# Altium integrated library Library.IntLib: 629 symbols (part 14 of 21)
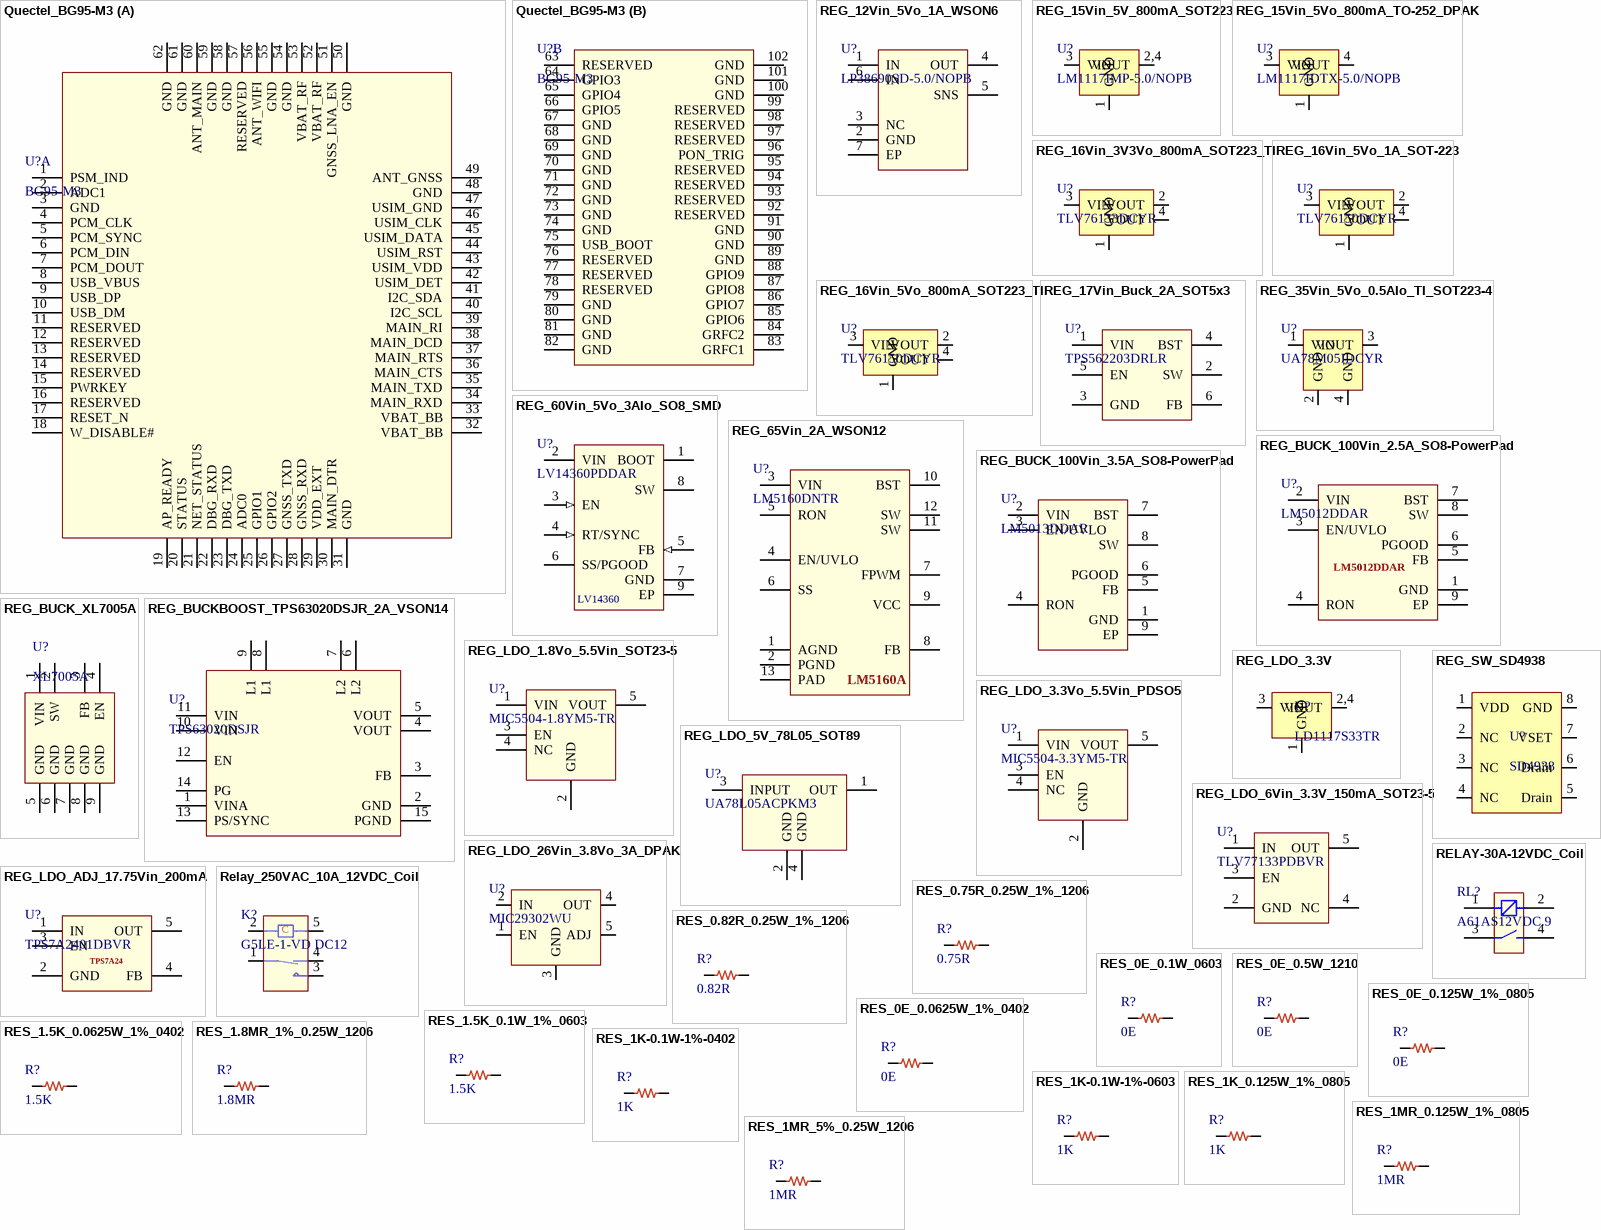
[diagram p31: symbols Quectel_BG95-M3 to RES_1MR_5%_0.25W_1206]

## REG_16Vin_5Vo_800mA_SOT223_TI
designator U?, comment TLV76150DCYR
1-A 16-V high-PSRR linear voltage regulator 4-SOT-223 -40 to 125; Manufacturer: Texas Instruments; Supplier: Mouser; Supplier Part Number: 595-TLV76150DCYR; Manufacturer Part Number: TLV76150DCYR; RoHS: No; Category: Integrated Circuits (ICs); Stock: 33339; Pricing: 1=0.5, 10=0.314, 50=0.314, 100=0.253, 1000=0.231, 10000=0.167 (USD)
footprint SOT223 (SOT223, 4-Leads, Body 6.50x7.00mm (avg), Pitch 2.30mm, IPC Medium Density)
pins: 1 GND, 2 VOUT, 3 VIN, 4 VOUT

## REG_17Vin_Buck_2A_SOT5x3
designator U?, comment TPS562203DRLR
4.2-V to 17-V input, 2-A synchronous buck converter in SOT563 with eco-mode 6-SOT-5X3 -40 to 125; Manufacturer: Texas Instruments; Supplier: Mouser; Supplier Part Number: 595-TPS562203DRLR; Manufacturer Part Number: TPS562203DRLR; RoHS: No; Category: Voltage Regulators - Switching; Stock: 6075; Pricing: 1=0.45, 10=0.344, 50=0.344, 100=0.214, 1000=0.113, 10000=0.087 (USD)
footprint SOT5X3 - 6
pins: 1 VIN, 2 SW, 3 GND, 4 BST, 5 EN, 6 FB

## REG_35Vin_5Vo_0.5AIo_TI_SOT223-4
designator U?, comment UA78M05IDCYR
Fixed Positive Standard Regulator, 5VBIPolar, SOT223-4; Manufacturer: Texas Instruments; Package Body Material: Plastic; Dropout Voltage1-Nom: 2V; Input Voltage Absolute-Max: 35V; Max Supply Voltage: 25V; Min Input Voltage: 7V; Line Regulation-Max: 0.1%; Channels: 1; Output Current1-Max: 500mA; Output Voltage1-Max: 5.25V; Output Voltage1-Min: 4.75V; Output Voltage1-Nom: 5V; Regulator Type: FIXED POSITIVE SINGLE OUTPUT STANDARD REGULATOR; Voltage Tolerance-Max: 5%; Qualification Status: Not Qualified; Supplier: Mouser; Supplier Part Number: 595-UA78M05IDCYR; Manufacturer Part Number: UA78M05IDCYR; RoHS: Yes; Category: Voltage Regulators - Linear; Stock: 50680; Pricing: 1=0.62, 10=0.516, 50=0.516, 100=0.392, 1000=0.262, 10000=0.215 (USD); Case/Package: SOP; Pins: 4; Package Shape: Rectangular; Terminal Finish: Tin; JESD-609 Code: e3; Adjustability: FIXED; JESD-30 Code: R-PDSO-G4; Load Regulation-Max: 0.1%; Moisture Sensitivity Level: 2; Number of Outputs: 1; Operating Temperature, TJ-Max: 125°C; Operating Temperature, TJ-Min: -40°C; Package Style: SMALL OUTLINEMeter; Packaging: Tape and Reel; Peak Reflow Temperature (Cel): 260°C; Surface Mount: Yes; Technology: BIPOLAR; Terminal Form: Gull Wing; Terminal Position: DUAL; Length: 6.5mm; Width: 3.5mm; Height - Seated (Max): 1.8mm; Terminal Pitch: 2.3mm; Reach SVHC Compliant: Yes; RoHS Compliant: Yes; ComponentLink1URL: https://www.ti.com:443/lit/ds/symlink/ua78m.pdf?src-supplier=IHS+Markit; ComponentLink1Description: https://www.ti.com:443/lit/ds/symlink/ua78m.pdf?src-supplier=IHS+Markit; ComponentLink2URL: https://datasheet.ciiva.com/2042/ua78m05-2042251.pdf?src-supplier=Digikey; ComponentLink2Description: https://datasheet.ciiva.com/2042/ua78m05-2042251.pdf?src-supplier=Digikey; ComponentLink3URL: https://datasheet.ciiva.com/2042/ua78m05-2042252.pdf?src-supplier=Digikey; ComponentLink3Description: https://datasheet.ciiva.com/2042/ua78m05-2042252.pdf?src-supplier=Digikey; ComponentLink4URL: https://datasheet.ciiva.com/2042/ua78m05-2042253.pdf?src-supplier=Digikey; ComponentLink4Description: https://datasheet.ciiva.com/2042/ua78m05-2042253.pdf?src-supplier=Digikey; ComponentLink5URL: https://datasheet.ciiva.com/14274/ua78m05-14274743.pdf?src-supplier=Avnet; ComponentLink5Description: https://datasheet.ciiva.com/14274/ua78m05-14274743.pdf?src-supplier=Avnet; ComponentLink6URL: https://datasheet.ciiva.com/46429/1849874-46429894.pdf?src-supplier=Element14; ComponentLink6Description: https://datasheet.ciiva.com/46429/1849874-46429894.pdf?src-supplier=Element14
footprint SOT223 (SOT223, 4-Leads, Body 6.50x7.00mm (avg), Pitch 2.30mm, IPC Medium Density)
pins: 1 VIN, 2 GND, 3 VOUT, 4 GND

## REG_60Vin_5Vo_3AIo_SO8_SMD
designator U?, comment LV14360PDDAR
Buck Switching Regulator IC Positive Adjustable 0.8V 1 Output 3A 8-PowerSOIC (0.154", 3.90mm Width); Manufacturer: Texas Instruments; Supplier: Digi-Key; Supplier Part Number: 296-LV14360PDDARDKR-ND; Manufacturer Part Number: LV14360PDDAR; RoHS: Yes; Category: Voltage Regulators - Switching; Pricing: 1=2.94, 10=2.644, 25=2.4996, 100=2.1664, 250=2.05536, 500=1.84426, 1000=1.5554 (USD); RoHS Compliant: Yes
footprint SOIC8_WithPad (LV14360)
pins: 1 BOOT (power), 2 VIN (power), 3 EN (in), 4 RT/SYNC (in), 5 FB (in), 6 SS/PGOOD, 7 GND (power), 8 SW (power), 9 EP (power)
text: LV14360

## REG_65Vin_2A_WSON12
designator U?, comment LM5160DNTR
Switching Regulator, 2A, 1000kHz Switching Freq-Max, PDSO12; Manufacturer: Texas Instruments; Package Body Material: Plastic; Control Technique: PULSE WIDTH MODULATION; Max Supply Voltage: 65V; Min Input Voltage: 4.5V; Nominal Supply Voltage: 24V; Channels: 1; Max Output current: 2.875A; Switcher Configuration: BUCK; Supplier: Mouser; Supplier Part Number: 595-LM5160DNTR; Manufacturer Part Number: LM5160DNTR; RoHS: Yes; Category: Voltage Regulators - Switching; Stock: 1; Pricing: 1=5.57, 10=5, 50=5, 100=4.1, 1000=2.94, 10000=2.79 (USD); Case/Package: HVSON; Pins: 12; Package Shape: Square; Terminal Finish: Tin; Min Operating Temperature: -40°C; Max Operating Temperature: 125°C; JESD-609 Code: e3; Throw Configuration: SWITCHING REGULATOR; Moisture Sensitivity Level: 1; Package Style: SMALL OUTLINE, HEAT SINK/SLUG, VERY THIN PROFILEMeter; Peak Reflow Temperature (Cel): 260°C; Surface Mount: Yes; Terminal Form: No Lead; Terminal Position: DUAL; Length: 4mm; Width: 4mm; Height - Seated (Max): 0.8mm; Terminal Pitch: 0.5mm; Temperature Grade: AUTOMOTIVE; Reach SVHC Compliant: Yes; RoHS Compliant: Yes; ComponentLink1URL: https://www.ti.com:443/lit/ds/symlink/lm5160.pdf?src-supplier=IHS+Markit; ComponentLink1Description: https://www.ti.com:443/lit/ds/symlink/lm5160.pdf?src-supplier=IHS+Markit; ComponentLink2URL: http://www.ti.com/general/docs/suppproductinfo.tsp?distId=10&amp;gotoUrl=http%3A%2F%2Fwww.ti.com%2Flit%2Fgpn%2Flm5160&src-supplier=Digikey; ComponentLink2Description: http://www.ti.com/general/docs/suppproductinfo.tsp?distId=10&amp;gotoUrl=http%3A%2F%2Fwww.ti.com%2Flit%2Fgpn%2Flm5160&src-supplier=Digikey; ComponentLink3URL: http://www.ti.com/lit/pdf/szzy004?src-supplier=Digikey; ComponentLink3Description: http://www.ti.com/lit/pdf/szzy004?src-supplier=Digikey; ComponentLink4URL: http://www.ti.com/general/docs/lit/getliterature.tsp?genericPartNumber=LM5160A&&fileType=pdf&src-supplier=Avnet; ComponentLink4Description: http://www.ti.com/general/docs/lit/getliterature.tsp?genericPartNumber=LM5160A&&fileType=pdf&src-supplier=Avnet
footprint WSON12 (0.5mm pitch)
pins: 1 AGND, 2 PGND, 3 VIN, 4 EN/UVLO, 5 RON, 6 SS, 7 FPWM, 8 FB, 9 VCC, 10 BST, 11 SW, 12 SW, 13 PAD
text: LM5160A

## REG_BUCK_100Vin_2.5A_SO8-PowerPad
designator U?, comment LM5012DDAR
6-V to 100-V input, 2.5-A non-synchronous buck DC/DC converter with ultra-low IQ 8-SO PowerPAD -40 to 150; Manufacturer: Texas Instruments; Supplier: Mouser; Supplier Part Number: 595-LM5012DDAR; Manufacturer Part Number: LM5012DDAR; RoHS: No; Category: Integrated Circuits (ICs); Stock: 1216; Pricing: 1=2.9, 10=2.6, 50=2.6, 100=2.13, 1000=1.62, 10000=1.37 (USD)
footprint SOIC8_WithPad (LV14360)
pins: 1 GND, 2 VIN, 3 EN/UVLO, 4 RON, 5 FB, 6 PGOOD, 7 BST, 8 SW, 9 EP

## REG_BUCK_100Vin_3.5A_SO8-PowerPad
designator U?, comment LM5013DDAR
6-V to 100-V input, 3.5-A non-synchronous buck DC/DC converter with ultra-low quiescent current (IQ) 8-SO PowerPAD...; Manufacturer: Texas Instruments; Supplier: Mouser; Supplier Part Number: 595-LM5013DDAR; Manufacturer Part Number: LM5013DDAR; RoHS: No; Category: Integrated Circuits (ICs); Stock: 27; Pricing: 1=4.13, 10=3.71, 50=3.71, 100=3.04, 1000=2.31, 10000=1.96 (USD)
footprint SOIC8_WithPad (LV14360)
pins: 1 GND, 2 VIN, 3 EN/UVLO, 4 RON, 5 FB, 6 PGOOD, 7 BST, 8 SW, 9 EP

## REG_BUCK_XL7005A
designator U?, comment XL7005A
Step-down type SOIC-8-EP DC-DC Converters ROHS
footprint SOIC8_WithPad (LV14360)
pins: 1 VIN, 2 SW, 3 FB, 4 EN, 5 GND, 6 GND, 7 GND, 8 GND, 9 GND

## REG_BUCKBOOST_TPS63020DSJR_2A_VSON14
designator U?, comment TPS63020DSJR
Switching Regulator, Current-mode, 2A, 2600kHz Switching Freq-Max, PDSO14; Manufacturer: Texas Instruments; Package Body Material: Plastic; Control Technique: PULSE WIDTH MODULATION; Max Supply Voltage: 5.5V; Min Input Voltage: 1.8V; Nominal Supply Voltage: 3.6V; Channels: 1; Max Output current: 4.5A; Switcher Configuration: BUCK-BOOST; Frequency: 2.6MHz; Qualification Status: Not Qualified; Supplier: Mouser; Supplier Part Number: 595-TPS63020DSJR; Manufacturer Part Number: TPS63020DSJR; RoHS: Yes; Category: Voltage Regulators - Switching; Stock: 11804; Pricing: 1=2.4, 10=1.8, 50=1.8, 100=1.62, 1000=1.43, 10000=1.42 (USD); Case/Package: HVSON; Pins: 14; Package Shape: Rectangular; Terminal Finish: Nickel; Min Operating Temperature: -40°C; Max Operating Temperature: 85°C; JESD-609 Code: e4; Throw Configuration: SWITCHING REGULATOR; Control Mode: CURRENT-MODE; Moisture Sensitivity Level: 1; Package Style: SMALL OUTLINE, HEAT SINK/SLUG, VERY THIN PROFILEMeter; Peak Reflow Temperature (Cel): 260°C; Surface Mount: Yes; Terminal Form: No Lead; Terminal Position: DUAL; Length: 4mm; Width: 3mm; Height - Seated (Max): 1mm; Terminal Pitch: 0.5mm; Temperature Grade: INDUSTRIAL; Reach SVHC Compliant: Yes; RoHS Compliant: Yes; ComponentLink1URL: https://www.ti.com:443/lit/ds/symlink/tps63020.pdf?src-supplier=IHS+Markit; ComponentLink1Description: https://www.ti.com:443/lit/ds/symlink/tps63020.pdf?src-supplier=IHS+Markit; ComponentLink2URL: https://datasheet.ciiva.com/29733/tps63021-29733058.pdf?src-supplier=Digikey; ComponentLink2Description: https://datasheet.ciiva.com/29733/tps63021-29733058.pdf?src-supplier=Digikey; ComponentLink3URL: https://datasheet.ciiva.com/29733/tps63020-29733142.pdf?src-supplier=Digikey; ComponentLink3Description: https://datasheet.ciiva.com/29733/tps63020-29733142.pdf?src-supplier=Digikey; ComponentLink4URL: https://datasheet.ciiva.com/3221/tps63020-3221509.pdf?src-supplier=Avnet; ComponentLink4Description: https://datasheet.ciiva.com/3221/tps63020-3221509.pdf?src-supplier=Avnet
footprint VSON14-TP
pins: 1 VINA, 2 GND, 3 FB, 4 VOUT, 5 VOUT, 6 L2, 7 L2, 8 L1, 9 L1, 10 VIN, 11 VIN, 12 EN, 13 PS/SYNC, 14 PG, 15 PGND

## REG_LDO_1.8Vo_5.5Vin_SOT23-5
designator U?, comment MIC5504-1.8YM5-TR
Fixed Positive LDO Regulator, 1.8V, 0.38V Dropout, CMOS, PDSO5; Manufacturer: Microchip; Regulator Type: FIXED POSITIVE SINGLE OUTPUT STANDARD REGULATOR; Supplier: Avnet; Supplier Part Number: 41AH8560; Manufacturer Part Number: MIC5504-1.8YM5-TR; RoHS: Yes; Category: Voltage Regulators - Linear; Stock: 1273; Pricing: 1=0.166, 25=0.125, 50=0.12 (USD); Reach SVHC Compliant: Yes; RoHS Compliant: Yes; ComponentLink1URL: https://datasheet.ciiva.com:443/pdfs/VipMasterIC/IC/MCHP/MCHP-S-A0004854564/MCHP-S-A0004854564-1.pdf?src-supplier=IHS+Markit; ComponentLink1Description: https://datasheet.ciiva.com:443/pdfs/VipMasterIC/IC/MCHP/MCHP-S-A0004854564/MCHP-S-A0004854564-1.pdf?src-supplier=IHS+Markit
footprint SOT23-5
pins: 1 VIN, 2 GND, 3 EN, 4 NC, 5 VOUT

## REG_LDO_3.3V
designator U?, comment LD1117S33TR
LDO Regulator Pos 3.3V 1.3A 4-Pin(3+Tab) SOT-223 T/R; Manufacturer: STMicroelectronics; Number of Outputs: 1; Max Input Voltage: 15V; Max Power Dissipation: 12W; Quiescent Current: 10mA; Polarity: Positive; Accuracy: 1%; Output Type: Fixed; Dropout Voltage: 1.1V; Output Current: 800mA; Min Input Voltage: 4.75V; Input Bias Current: 5mA; Power Supply Rejection Ratio (PSRR): 75dB; Supplier 1: Digi-Key; Manufacturer Part Number: LD1117S33TR; RoHS: Yes; Category: Voltage Regulators - Linear; Stock 1: 18488; Pricing 1: 1=0.66, 10=0.567, 25=0.5292, 100=0.4232, 250=0.393, 500=0.33254, 1000=0.25697 (USD); Mount: Surface Mount; Case/Package: SOT-223; Number of Pins: 4; Min Operating Temperature: 0°C; Max Operating Temperature: 125°C; Max Output Current: 1.3A; Output Voltage: 3.3V; Packaging: Tape and Reel; Max Supply Voltage: 15V; Min Supply Voltage: 4.75V; Package Quantity: 2500; Nominal Output Voltage: 3.3V; Number of Regulators: 1; Power Dissipation: 12W; Min Output Voltage: 3.3V; Max Output Voltage: 3.3V; Termination: SMD/SMT; Voltage: 3.3V; Output Voltage Accuracy: 1%; Series: -; Output Configuration: Positive; Length: 6.5mm; Width: 3.5mm; Height: 1.8mm; Radiation Hardening: No; Reach SVHC Compliant: No; Lead Free: Lead Free; RoHS Compliant: Yes; ComponentLink1URL: https://datasheet.ciiva.com/19478/1390240-19478097.pdf?src-supplier=Jameco; ComponentLink1Description: https://datasheet.ciiva.com/19478/1390240-19478097.pdf?src-supplier=Jameco; ComponentLink2URL: https://datasheet.ciiva.com/1511/1776449-1511573.pdf?src-supplier=Element14; ComponentLink2Description: https://datasheet.ciiva.com/1511/1776449-1511573.pdf?src-supplier=Element14; ComponentLink3URL: https://datasheet.ciiva.com/7992/1776449-7992621.pdf?src-supplier=Element14; ComponentLink3Description: https://datasheet.ciiva.com/7992/1776449-7992621.pdf?src-supplier=Element14; ComponentLink4URL: https://datasheet.ciiva.com/28652/1776449-28652462.pdf?src-supplier=Element14; ComponentLink4Description: https://datasheet.ciiva.com/28652/1776449-28652462.pdf?src-supplier=Element14; ComponentLink5URL: https://datasheet.ciiva.com/2041/cd00000544-2041942.pdf?src-supplier=Digi-Key; ComponentLink5Description: https://datasheet.ciiva.com/2041/cd00000544-2041942.pdf?src-supplier=Digi-Key; ComponentLink6URL: https://datasheet.ciiva.com/2041/cd00000544-2041941.pdf?src-supplier=Digi-Key; ComponentLink6Description: https://datasheet.ciiva.com/2041/cd00000544-2041941.pdf?src-supplier=Digi-Key; ComponentLink7URL: https://datasheet.ciiva.com/2041/cd00000544-2041943.pdf?src-supplier=Digi-Key; ComponentLink7Description: https://datasheet.ciiva.com/2041/cd00000544-2041943.pdf?src-supplier=Digi-Key; ComponentLink8URL: https://datasheet.ciiva.com/16396/cd00000544-16396459.pdf?src-supplier=Future+Electronics; ComponentLink8Description: https://datasheet.ciiva.com/16396/cd00000544-16396459.pdf?src-supplier=Future+Electronics; Supplier Part Number 1: 497-1242-1-ND
footprint SOT223 (SOT223, 4-Leads, Body 6.50x7.00mm (avg), Pitch 2.30mm, IPC Medium Density)
pins: 1 GND, 2,4 VOUT, 3 VIN

## REG_LDO_3.3Vo_5.5Vin_PDSO5
designator U?, comment MIC5504-3.3YM5-TR
Fixed Positive LDO Regulator, 3.3V, 0.38V Dropout, CMOS, PDSO5; Manufacturer: Microchip; Regulator Type: FIXED POSITIVE SINGLE OUTPUT STANDARD REGULATOR; Supplier: Avnet; Supplier Part Number: MIC5504-3.3YM5-TR; Manufacturer Part Number: MIC5504-3.3YM5-TR; RoHS: Yes; Category: Voltage Regulators - Linear; Stock: 21000; Pricing: 3000=0.11111 (USD); Reach SVHC Compliant: Yes; RoHS Compliant: Yes; ComponentLink1URL: https://datasheet.ciiva.com:443/pdfs/VipMasterIC/IC/MCHP/MCHP-S-A0004854564/MCHP-S-A0004854564-1.pdf?src-supplier=IHS+Markit; ComponentLink1Description: https://datasheet.ciiva.com:443/pdfs/VipMasterIC/IC/MCHP/MCHP-S-A0004854564/MCHP-S-A0004854564-1.pdf?src-supplier=IHS+Markit; ComponentLink2URL: https://datasheet.ciiva.com/46425/1856860-46425639.pdf?src-supplier=Element14; ComponentLink2Description: https://datasheet.ciiva.com/46425/1856860-46425639.pdf?src-supplier=Element14
footprint SOT23-5
pins: 1 VIN, 2 GND, 3 EN, 4 NC, 5 VOUT

## REG_LDO_5V_78L05_SOT89
designator U?, comment UA78L05ACPKM3
100-mA 30-V linear voltage regulator; Manufacturer: Texas Instruments; Supplier: Mouser; Supplier Part Number: 595-UA78L05ACPKM3; Manufacturer Part Number: UA78L05ACPKM3; RoHS: No; Stock: 2036; Pricing: 1=0.5, 10=0.399, 50=0.399, 100=0.272, 1000=0.152, 10000=0.123 (USD)
footprint SOT89
pins: 1 OUT, 2 GND, 3 INPUT, 4 GND

## REG_LDO_6Vin_3.3V_150mA_SOT23-5
designator U?, comment TLV77133PDBVR
150mA small-size high-PSRR low-dropout (LDO) linear regulator 5-SOT-23 -40 to 125; Manufacturer: Texas Instruments; Supplier: Mouser; Supplier Part Number: 595-TLV77133PDBVR; Manufacturer Part Number: TLV77133PDBVR; RoHS: No; Stock: 5755; Pricing: 1=0.23, 10=0.185, 50=0.185, 100=0.086, 1000=0.044, 10000=0.029 (USD)
footprint SOT23-5
pins: 1 IN, 2 GND, 3 EN, 4 NC, 5 OUT

## REG_LDO_26Vin_3.8Vo_3A_DPAK
designator U?, comment MIC29302WU
IC REG LDO ADJ 3A TO263-5; Manufacturer: Microchip; Manufacturer Part Number: MIC29302WU-TR; Supplier: Digi-Key; Supplier Part Number: 576-1125-1-ND; RoHS: Yes; Category: Voltage Regulators - Linear; Stock: 15465; Pricing: 1=2.89, 25=2.4, 100=2.18 (USD); ComponentLink1URL: https://datasheet.ciiva.com/23772/1572633-23772885.pdf?src-supplier=Newark; ComponentLink1Description: https://datasheet.ciiva.com/23772/1572633-23772885.pdf?src-supplier=Newark; ComponentLink2URL: https://datasheet.ciiva.com/16296/mic29150-16296190.pdf?src-supplier=Future+Electronics; ComponentLink2Description: https://datasheet.ciiva.com/16296/mic29150-16296190.pdf?src-supplier=Future+Electronics; ComponentLink3URL: https://datasheet.ciiva.com/15200/getdatasheetpartid-143209-15200663.pdf?src-supplier=Verical; ComponentLink3Description: https://datasheet.ciiva.com/15200/getdatasheetpartid-143209-15200663.pdf?src-supplier=Verical
footprint DDPAK_TO236-5 (MIC29302WU)
pins: 1 EN, 2 IN, 3 GND, 4 OUT, 5 ADJ

## REG_LDO_ADJ_17.75Vin_200mA
designator U?, comment TPS7A2401DBVR
Adjustable Positive LDO Regulator, 1.24V Min, 17.75V Max, 0.25V Dropout, PDSO5; Manufacturer: Texas Instruments; Supplier: Mouser; Supplier Part Number: 595-TPS7A2401DBVR; Manufacturer Part Number: TPS7A2401DBVR; RoHS: Yes; Category: Voltage Regulators - Linear; Stock: 20382; Pricing: 1=0.52, 10=0.362, 50=0.324, 100=0.282, 1000=0.24, 10000=0.216 (USD)
footprint SOT23-5
pins: 1 IN, 2 GND, 3 EN, 4 FB, 5 OUT
text: TPS7A24

## REG_SW_SD4938
designator U?, comment SD4938
Input voltage: 20V~150V Adjustable output voltage including: 12V, 15V and 18V Output current: 0.5A
footprint SO-8 (1.27mm pitch)
pins: 1 VDD, 2 NC, 3 NC, 4 NC, 5 Drain, 6 Drain, 7 VSET, 8 GND

## RELAY-30A-12VDC_Coil
designator RL?, comment A61AS12VDC.9
Automotive Relay, SPST N.O., Sealed, 12VDC, .9W coil, standard coil suppression; Manufacturer: CIT Relay & Switch; Supplier: DigiKey; Supplier Part Number: 2449-A61AS12VDC.9-ND; Manufacturer Part Number: A61AS12VDC.9; Stock: 142; Pricing: 1=2.66, 10=2.324, 25=2.2028, 50=2.1148, 100=2.0305, 250=1.92412, 450=1.8588, 950=1.77901, 4900=1.6156 (USD)
pins: 1, 2, 3, 4

## Relay_250VAC_10A_12VDC_Coil
designator K?, comment G5LE-1-VD DC12
General Purpose Power Relay Relay Type: Miniature; Relay Mounting: PCB; Series: G5LE; Manufacturer: Omron; Supplier: Digikey; Supplier Part Number: Z3672-ND; Manufacturer Part Number: G5LE-1-VD DC12; RoHS: No; Category: Power Relays; Stock: 6578; Pricing: 1=1.58, 10=1.377, 25=1.3044, 40=1.269, 80=1.21838, 230=1.14517, 500=1.0941, 1000=1.05046, 5000=0.95571 (USD); ComponentLink1URL: http://www.mouser.com/ds/2/307/G5LE_0813-267607.pdf?src-supplier=Mouser; ComponentLink1Description: http://www.mouser.com/ds/2/307/G5LE_0813-267607.pdf?src-supplier=Mouser; ComponentLink2URL: https://datasheet.octopart.com/G5LE-1-VD-DC12-Omron-datasheet-68420740.pdf?src-supplier=Element14; ComponentLink2Description: https://datasheet.octopart.com/G5LE-1-VD-DC12-Omron-datasheet-68420740.pdf?src-supplier=Element14; ComponentLink3URL: http://omronfs.omron.com/en_US/ecb/products/pdf/en-g5le.pdf?src-supplier=Digikey; ComponentLink3Description: http://omronfs.omron.com/en_US/ecb/products/pdf/en-g5le.pdf?src-supplier=Digikey; ComponentLink4URL: https://datasheet.octopart.com/G5LE-1-VD-DC12-Omron-datasheet-21210710.pdf?src-supplier=Sager+Electronics; ComponentLink4Description: https://datasheet.octopart.com/G5LE-1-VD-DC12-Omron-datasheet-21210710.pdf?src-supplier=Sager+Electronics; ComponentLink5URL: https://datasheet.octopart.com/G5LE-1-VD-DC12-Omron-datasheet-11632400.pdf?src-supplier=Master+Electronics; ComponentLink5Description: https://datasheet.octopart.com/G5LE-1-VD-DC12-Omron-datasheet-11632400.pdf?src-supplier=Master+Electronics
footprint RELAY_SugarCube
pins: 1 IN, 2, 3 OUT, 4 NO, 5
text: C

## RES_0.75R_0.25W_1%_1206
designator R?, comment 0.75R
Fixed Resistor, Metal Glaze/thick Film, 0.25W, 0.75ohm, 1% +/-Tol, 200ppm/Cel, Surface Mount, 1206; Manufacturer: Yageo; Manufacturer Part Number: RL1206FR-070R75L; Additional Feature: LASER TRIMMABLE; Power: 250mW; Rated Temperature: 70°C; Value: 750mR; Temperature Coefficient (ppm/Cel): 200; Package Height: 0.55mm; Package Length: 3.1mm; Package Width: 1.6mm; Reference Standard: AEC-Q200; Supplier: Farnell; Supplier Part Number: 3497037; RoHS: Yes; Category: Chip SMD Resistors; Stock: 8956; Pricing: 10=0.0869, 100=0.0735, 500=0.0582, 1000=0.0428, 2500=0.0419 (EUR); Mounting Technology: Surface Mount; Pins: 2; Package Shape: Rectangular; Case/Package: 1206; Terminal Finish: Nickel; Min Operating Temperature: -55°C; Max Operating Temperature: 125°C; Tolerance: 1%; JESD-609 Code: e3; Resistor Type: FIXED RESISTOR; Construction: Chip; Packaging: Tape and Reel; Technology: METAL GLAZE/THICK FILM; Termination: Wraparound; Reach SVHC Compliant: Yes; RoHS Compliant: Yes; ComponentLink1URL: https://datasheet.ciiva.com:443/pdfs/VipMasterIC/IC/YAGO/YAGO-S-A0003209907/YAGO-S-A0003209907-1.pdf?src-supplier=IHS+Markit; ComponentLink1Description: https://datasheet.ciiva.com:443/pdfs/VipMasterIC/IC/YAGO/YAGO-S-A0003209907/YAGO-S-A0003209907-1.pdf?src-supplier=IHS+Markit; ComponentLink2URL: https://datasheet.ciiva.com/15328/pyu-rl-521-rohs-l-5-15328423.pdf?src-supplier=Mouser; ComponentLink2Description: https://datasheet.ciiva.com/15328/pyu-rl-521-rohs-l-5-15328423.pdf?src-supplier=Mouser; ComponentLink3URL: https://datasheet.ciiva.com/14983/pyu-rl-group-521-rohs-l-0-14983238.pdf?src-supplier=Digikey; ComponentLink3Description: https://datasheet.ciiva.com/14983/pyu-rl-group-521-rohs-l-0-14983238.pdf?src-supplier=Digikey; ComponentLink4URL: https://datasheet.ciiva.com/14983/pyu-rl-group-521-rohs-l-0-14983239.pdf?src-supplier=Digikey; ComponentLink4Description: https://datasheet.ciiva.com/14983/pyu-rl-group-521-rohs-l-0-14983239.pdf?src-supplier=Digikey; ComponentLink5URL: https://datasheet.ciiva.com/14983/pyu-rl-group-521-rohs-l-0-14983240.pdf?src-supplier=Digikey; ComponentLink5Description: https://datasheet.ciiva.com/14983/pyu-rl-group-521-rohs-l-0-14983240.pdf?src-supplier=Digikey
footprint RES_1206
pins: 1, 2

## RES_0.82R_0.25W_1%_1206
designator R?, comment 0.82R
Fixed Resistor, Metal Glaze/thick Film, 0.25W, 0.82ohm, 1% +/-Tol, -200,200ppm/Cel, 1206; Manufacturer: Yageo; Manufacturer Part Number: RL1206FR-070R82L; Power: 250mW; Value: 820mR; Package Height: 0.55mm; Package Length: 3.1mm; Package Width: 1.6mm; Reference Standard: AEC-Q200; Supplier: Farnell; Supplier Part Number: 1779459; RoHS: Yes; Category: Chip SMD Resistors; Stock: 5960; Pricing: 10=0.0873, 100=0.0611, 500=0.0549, 1000=0.0487, 2500=0.0477 (EUR); Pins: 2; Case/Package: 1206; Terminal Finish: Nickel; Min Operating Temperature: -55°C; Max Operating Temperature: 125°C; Tolerance: 1%; JESD-609 Code: e3; Resistor Type: FIXED RESISTOR; Construction: Chip; Packaging: Tape and Reel; Technology: METAL GLAZE/THICK FILM; Temperature Coefficient (ppm/Cel): -200,200; Reach SVHC Compliant: Yes; RoHS Compliant: Yes; ComponentLink1URL: https://datasheet.ciiva.com:443/pdfs/VipMasterIC/IC/YAGO/YAGO-S-A0003209907/YAGO-S-A0003209907-1.pdf?src-supplier=IHS+Markit; ComponentLink1Description: https://datasheet.ciiva.com:443/pdfs/VipMasterIC/IC/YAGO/YAGO-S-A0003209907/YAGO-S-A0003209907-1.pdf?src-supplier=IHS+Markit; ComponentLink2URL: https://datasheet.ciiva.com/8884/pyu-rl-521-rohs-l-5-8884760.pdf?src-supplier=Avnet; ComponentLink2Description: https://datasheet.ciiva.com/8884/pyu-rl-521-rohs-l-5-8884760.pdf?src-supplier=Avnet; ComponentLink3URL: https://datasheet.ciiva.com/15328/pyu-rl-521-rohs-l-5-15328412.pdf?src-supplier=Mouser; ComponentLink3Description: https://datasheet.ciiva.com/15328/pyu-rl-521-rohs-l-5-15328412.pdf?src-supplier=Mouser; ComponentLink4URL: https://datasheet.ciiva.com/7857/877049-7857576.pdf?src-supplier=Element14; ComponentLink4Description: https://datasheet.ciiva.com/7857/877049-7857576.pdf?src-supplier=Element14; ComponentLink5URL: https://datasheet.ciiva.com/7857/877049-7857577.pdf?src-supplier=Element14; ComponentLink5Description: https://datasheet.ciiva.com/7857/877049-7857577.pdf?src-supplier=Element14
footprint RES_1206
pins: 1, 2

## RES_0E_0.1W_0603
designator R?, comment 0E
Metal Glaze/thick Film, 0.1W, 0ohm, Surface Mount, 0603; Manufacturer: Yageo; Manufacturer Part Number: RC0603JR-070RL; Power: 100mW; Rated Temperature: 70°C; Value: 0R; Package Height: 0.45mm; Package Length: 1.6mm; Package Width: 0.8mm; Supplier: Digi-Key; Supplier Part Number: 311-0.0GRCT-ND; RoHS: Yes; Category: Chip SMD Resistors; Stock: 1005063; Pricing: 1=0.1, 10=0.015, 25=0.0112, 50=0.0086, 100=0.006, 250=0.0048, 500=0.00386, 1000=0.00284 (USD); Mounting Technology: Surface Mount; Pins: 2; Package Shape: Rectangular; Case/Package: 0603; Terminal Finish: Nickel; Min Operating Temperature: -55°C; Max Operating Temperature: 155°C; JESD-609 Code: e3; Resistor Type: FIXED RESISTOR; Construction: Chip; Package Style: SMTMeter; Packaging: Tape and Reel; Technology: METAL GLAZE/THICK FILM; Termination: Wraparound; Reach SVHC Compliant: Yes; RoHS Compliant: Yes; ComponentLink1URL: https://datasheet.ciiva.com:443/pdfs/VipMasterIC/IC/YAGO/YAGO-S-A0008145938/YAGO-S-A0008145938-1.pdf?src-supplier=IHS+Markit; ComponentLink1Description: https://datasheet.ciiva.com:443/pdfs/VipMasterIC/IC/YAGO/YAGO-S-A0008145938/YAGO-S-A0008145938-1.pdf?src-supplier=IHS+Markit
footprint RES_0603
pins: 1, 2

## RES_0E_0.5W_1210
designator R?, comment 0E
Metal Glaze/thick Film, 0.5W, 0ohm, Surface Mount, 1210; Manufacturer: Yageo; Manufacturer Part Number: RC1210JR-070RL; Power: 500mW; Rated Temperature: 70°C; Value: 0R; Package Height: 0.55mm; Package Length: 3.1mm; Package Width: 2.6mm; Supplier: Rs; Supplier Part Number: 2427225; RoHS: Yes; Category: Chip SMD Resistors; Stock: 14700; Pricing: 100=0.028, 1000=0.025, 2000=0.02 (EUR); Mounting Technology: Surface Mount; Pins: 2; Package Shape: Rectangular; Case/Package: 1210; Terminal Finish: Nickel; Min Operating Temperature: -55°C; Max Operating Temperature: 155°C; JESD-609 Code: e3; Resistor Type: FIXED RESISTOR; Construction: Chip; Package Style: SMTMeter; Packaging: Tape and Reel; Technology: METAL GLAZE/THICK FILM; Termination: Wraparound; Reach SVHC Compliant: Yes; RoHS Compliant: Yes; ComponentLink1URL: https://datasheet.ciiva.com:443/pdfs/VipMasterIC/IC/YAGO/YAGO-S-A0008145938/YAGO-S-A0008145938-1.pdf?src-supplier=IHS+Markit; ComponentLink1Description: https://datasheet.ciiva.com:443/pdfs/VipMasterIC/IC/YAGO/YAGO-S-A0008145938/YAGO-S-A0008145938-1.pdf?src-supplier=IHS+Markit; ComponentLink2URL: https://datasheet.ciiva.com/11808/0900766b8079c86c-11808771.pdf?src-supplier=Rs; ComponentLink2Description: https://datasheet.ciiva.com/11808/0900766b8079c86c-11808771.pdf?src-supplier=Rs; ComponentLink3URL: https://datasheet.ciiva.com/5561/pyu-rc1210-51-rohs-l-4-5561862.pdf?src-supplier=Mouser; ComponentLink3Description: https://datasheet.ciiva.com/5561/pyu-rc1210-51-rohs-l-4-5561862.pdf?src-supplier=Mouser
footprint CAP_1210
pins: 1, 2

## RES_0E_0.125W_1%_0805
designator R?, comment 0E
Metal Glaze/thick Film, 0.125W, 0ohm, Surface Mount, 0805; Manufacturer: Yageo; Manufacturer Part Number: RC0805JR-070RL; Power: 125mW; Rated Temperature: 70°C; Value: 0R; Package Height: 0.5mm; Package Length: 2mm; Package Width: 1.25mm; Supplier: Future Electronics; Supplier Part Number: 2506467; RoHS: Yes; Category: Chip SMD Resistors; Stock: 5160000; Pricing: 5000=0.0023, 25000=0.0022, 100000=0.0021, 250000=0.002, 625000=0.0018 (USD); Mounting Technology: Surface Mount; Pins: 2; Package Shape: Rectangular; Case/Package: 0805; Terminal Finish: Nickel; Min Operating Temperature: -55°C; Max Operating Temperature: 155°C; JESD-609 Code: e3; Resistor Type: FIXED RESISTOR; Construction: Chip; Package Style: SMTMeter; Packaging: Tape and Reel; Technology: METAL GLAZE/THICK FILM; Termination: Wraparound; Reach SVHC Compliant: Yes; RoHS Compliant: Yes; ComponentLink1URL: https://datasheet.ciiva.com:443/pdfs/VipMasterIC/IC/YAGO/YAGO-S-A0008145938/YAGO-S-A0008145938-1.pdf?src-supplier=IHS+Markit; ComponentLink1Description: https://datasheet.ciiva.com:443/pdfs/VipMasterIC/IC/YAGO/YAGO-S-A0008145938/YAGO-S-A0008145938-1.pdf?src-supplier=IHS+Markit; ComponentLink2URL: https://datasheet.ciiva.com/7941/1738694-7941861.pdf?src-supplier=Element14; ComponentLink2Description: https://datasheet.ciiva.com/7941/1738694-7941861.pdf?src-supplier=Element14; ComponentLink3URL: https://datasheet.ciiva.com/11819/0900766b8106beab-11819430.pdf?src-supplier=Rs; ComponentLink3Description: https://datasheet.ciiva.com/11819/0900766b8106beab-11819430.pdf?src-supplier=Rs; ComponentLink4URL: https://datasheet.ciiva.com/7941/1738694-7941862.pdf?src-supplier=Element14; ComponentLink4Description: https://datasheet.ciiva.com/7941/1738694-7941862.pdf?src-supplier=Element14; ComponentLink5URL: https://datasheet.ciiva.com/15190/getdatasheetpartid-330685-15190028.pdf?src-supplier=Verical; ComponentLink5Description: https://datasheet.ciiva.com/15190/getdatasheetpartid-330685-15190028.pdf?src-supplier=Verical; ComponentLink6URL: https://datasheet.ciiva.com/7941/1738694-7941863.pdf?src-supplier=Element14; ComponentLink6Description: https://datasheet.ciiva.com/7941/1738694-7941863.pdf?src-supplier=Element14
footprint RES_0805
pins: 1, 2

## RES_0E_0.0625W_1%_0402
designator R?, comment 0E
Metal Glaze/thick Film, 0.0625W, 0ohm, Surface Mount, 0402; Manufacturer: Yageo; Manufacturer Part Number: RC0402JR-070RL; Power: 62.5mW; Rated Temperature: 70°C; Value: 0R; Package Height: 0.35mm; Package Length: 1mm; Package Width: 0.5mm; Supplier: Future Electronics; Supplier Part Number: 3375797; RoHS: Yes; Category: Chip SMD Resistors; Stock: 18720000; Pricing: 10000=0.0012, 50000=0.0008, 200000=0.0011, 250000=0.0007, 500000=0.0007, 750000=0.0011, 1500000=0.0006, 2500000=0.001, 10000000=0.0009 (USD); Mounting Technology: Surface Mount; Pins: 2; Package Shape: Rectangular; Case/Package: 0402; Terminal Finish: Nickel; Min Operating Temperature: -55°C; Max Operating Temperature: 155°C; JESD-609 Code: e3; Resistor Type: FIXED RESISTOR; Packaging: Tape and Reel; Technology: METAL GLAZE/THICK FILM; Termination: Wraparound; Construction: Chip; Package Style: SMTMeter; Reach SVHC Compliant: Yes; RoHS Compliant: Yes; ComponentLink1URL: https://datasheet.ciiva.com:443/pdfs/VipMasterIC/IC/YAGO/YAGO-S-A0008145938/YAGO-S-A0008145938-1.pdf?src-supplier=IHS+Markit; ComponentLink1Description: https://datasheet.ciiva.com:443/pdfs/VipMasterIC/IC/YAGO/YAGO-S-A0008145938/YAGO-S-A0008145938-1.pdf?src-supplier=IHS+Markit
footprint RES_0402
pins: 1, 2

## RES_1.5K_0.1W_1%_0603
designator R?, comment 1.5K
Fixed Resistor, Metal Glaze/thick Film, 0.1W, 1500ohm, 75V, 1% +/-Tol, 100ppm/Cel, Surface Mount, 0603; Manufacturer: Yageo; Manufacturer Part Number: RC0603FR-131K5L; Additional Feature: LASER TRIMMABLE; Power: 100mW; Rated Temperature: 70°C; Value: 1.5kR; Temperature Coefficient: 100ppm/°C; Package Height: 0.45mm; Package Length: 1.6mm; Package Width: 0.8mm; Supplier: Digikey; Supplier Part Number: 13-RC0603FR-131K5LTR-ND; RoHS: Yes; Category: Chip SMD Resistors; Stock: 60000; Pricing: 20000=0.00297, 40000=0.00278, 60000=0.00257, 100000=0.00232 (USD); Mounting Technology: Surface Mount; Pins: 2; Package Shape: Rectangular; Case/Package: 0603; Terminal Finish: Nickel; Min Operating Temperature: -55°C; Max Operating Temperature: 155°C; Tolerance: 1%; JESD-609 Code: e3; Resistor Type: FIXED RESISTOR; Construction: Chip; Package Style: SMTMeter; Packaging: Tape and Reel; Technology: METAL GLAZE/THICK FILM; Termination: Wraparound; Working Voltage: 75V; Reach SVHC Compliant: Yes; RoHS Compliant: Yes; ComponentLink1URL: https://datasheet.ciiva.com:443/pdfs/VipMasterIC/IC/YAGO/YAGO-S-A0008145938/YAGO-S-A0008145938-1.pdf?src-supplier=IHS+Markit; ComponentLink1Description: https://datasheet.ciiva.com:443/pdfs/VipMasterIC/IC/YAGO/YAGO-S-A0008145938/YAGO-S-A0008145938-1.pdf?src-supplier=IHS+Markit; ComponentLink2URL: http://www.mouser.com/ds/2/447/RC0603-272842.pdf?src-supplier=Mouser; ComponentLink2Description: http://www.mouser.com/ds/2/447/RC0603-272842.pdf?src-supplier=Mouser; ComponentLink3URL: http://www.yageo.com/pdf/PYu-RC0603_51_RoHS_L_4.pdf?src-supplier=Avnet; ComponentLink3Description: http://www.yageo.com/pdf/PYu-RC0603_51_RoHS_L_4.pdf?src-supplier=Avnet; ComponentLink4URL: https://datasheet.octopart.com/RC0603FR-131K5L-Yageo-datasheet-164759695.pdf?src-supplier=Future+Electronics; ComponentLink4Description: https://datasheet.octopart.com/RC0603FR-131K5L-Yageo-datasheet-164759695.pdf?src-supplier=Future+Electronics
footprint RES_0603
pins: 1, 2

## RES_1.5K_0.0625W_1%_0402
designator R?, comment 1.5K
Fixed Resistor, Metal Glaze/thick Film, 0.0625W, 1500ohm, 50V, 1% +/-Tol, 100ppm/Cel, Surface Mount, 0402; Manufacturer: Yageo; Manufacturer Part Number: RC0402FR-131K5L; Additional Feature: LASER TRIMMABLE; Power: 62.5mW; Rated Temperature: 70°C; Value: 1.5kR; Temperature Coefficient: 100ppm/°C; Package Height: 0.35mm; Package Length: 1mm; Package Width: 0.5mm; Supplier: Avnet; Supplier Part Number: RC0402FR-131K5L; RoHS: Yes; Category: Chip SMD Resistors; Stock: 50000; Pricing: 50000=0.00085 (USD); Mounting Technology: Surface Mount; Pins: 2; Package Shape: Rectangular; Case/Package: 0402; Terminal Finish: Nickel; Min Operating Temperature: -55°C; Max Operating Temperature: 155°C; Tolerance: 1%; JESD-609 Code: e3; Resistor Type: FIXED RESISTOR; Construction: Chip; Package Style: SMTMeter; Packaging: Tape and Reel; Technology: METAL GLAZE/THICK FILM; Termination: Wraparound; Working Voltage: 50V; Reach SVHC Compliant: Yes; RoHS Compliant: Yes; ComponentLink1URL: https://datasheet.ciiva.com:443/pdfs/VipMasterIC/IC/YAGO/YAGO-S-A0008145938/YAGO-S-A0008145938-1.pdf?src-supplier=IHS+Markit; ComponentLink1Description: https://datasheet.ciiva.com:443/pdfs/VipMasterIC/IC/YAGO/YAGO-S-A0008145938/YAGO-S-A0008145938-1.pdf?src-supplier=IHS+Markit; ComponentLink2URL: http://www.mouser.com/ds/2/447/PYu-RC0402_51_RoHS_L_6_r-8721.pdf?src-supplier=Mouser; ComponentLink2Description: http://www.mouser.com/ds/2/447/PYu-RC0402_51_RoHS_L_6_r-8721.pdf?src-supplier=Mouser; ComponentLink3URL: http://www.yageo.com/documents/recent/PYu-RC0402_51_RoHS_L_6.pdf?src-supplier=Avnet; ComponentLink3Description: http://www.yageo.com/documents/recent/PYu-RC0402_51_RoHS_L_6.pdf?src-supplier=Avnet; ComponentLink4URL: https://datasheet.octopart.com/RC0402FR-131K5L-Yageo-datasheet-164759695.pdf?src-supplier=Future+Electronics; ComponentLink4Description: https://datasheet.octopart.com/RC0402FR-131K5L-Yageo-datasheet-164759695.pdf?src-supplier=Future+Electronics; ComponentLink5URL: http://www.yageo.com/documents/recent/PYu-RC0402_51_RoHS_L_6_r.pdf?src-supplier=Future+Electronics; ComponentLink5Description: http://www.yageo.com/documents/recent/PYu-RC0402_51_RoHS_L_6_r.pdf?src-supplier=Future+Electronics
footprint RES_0402
pins: 1, 2

## RES_1.8MR_1%_0.25W_1206
designator R?, comment 1.8MR
Fixed Resistor, Metal Glaze/thick Film, 0.25W, 1800000ohm, 200V, 1% +/-Tol, 100ppm/Cel, Surface Mount, 1206; Manufacturer: Panasonic; Manufacturer Part Number: ERJ-8ENF1804V; Power: 250mW; Rated Temperature: 70°C; Temperature Coefficient (ppm/Cel): 100; Package Height: 0.6mm; Package Length: 3.2mm; Package Width: 1.6mm; Reference Standard: AEC-Q200; Supplier: Farnell; Supplier Part Number: 2307472; RoHS: Yes; Category: Chip SMD Resistors; Stock: 3596; Pricing: 10=0.046, 100=0.028, 500=0.0255, 1000=0.0229, 2500=0.0224 (EUR); Mounting Technology: Surface Mount; Pins: 2; Package Shape: Rectangular; Case/Package: 1206; Terminal Finish: Nickel; Min Operating Temperature: -55°C; Max Operating Temperature: 155°C; Tolerance: 1%; JESD-609 Code: e3; Resistor Type: FIXED RESISTOR; Construction: Rectangular; Packaging: Tape and Reel; Value: 1.8MR; Technology: METAL GLAZE/THICK FILM; Termination: Wraparound; Working Voltage: 200V; Reach SVHC Compliant: Yes; RoHS Compliant: Yes; ComponentLink1URL: https://datasheet.ciiva.com:443/pdfs/VipMasterIC/IC/PANA/PANA-S-A0009889626/PANA-S-A0009889626-1.pdf?src-supplier=IHS+Markit; ComponentLink1Description: https://datasheet.ciiva.com:443/pdfs/VipMasterIC/IC/PANA/PANA-S-A0009889626/PANA-S-A0009889626-1.pdf?src-supplier=IHS+Markit; ComponentLink2URL: https://datasheet.ciiva.com/22766/1678782-22766071.pdf?src-supplier=Farnell; ComponentLink2Description: https://datasheet.ciiva.com/22766/1678782-22766071.pdf?src-supplier=Farnell; ComponentLink3URL: https://datasheet.ciiva.com/9197/aoa0000ce2-9197670.pdf?src-supplier=Avnet; ComponentLink3Description: https://datasheet.ciiva.com/9197/aoa0000ce2-9197670.pdf?src-supplier=Avnet; ComponentLink4URL: https://datasheet.ciiva.com/24029/aoa0000ce2-24029462.pdf?src-supplier=Mouser; ComponentLink4Description: https://datasheet.ciiva.com/24029/aoa0000ce2-24029462.pdf?src-supplier=Mouser; ComponentLink5URL: https://datasheet.ciiva.com/22667/1678782-22667813.pdf?src-supplier=Element14; ComponentLink5Description: https://datasheet.ciiva.com/22667/1678782-22667813.pdf?src-supplier=Element14; ComponentLink6URL: https://datasheet.ciiva.com/22741/1678782-22741086.pdf?src-supplier=Element14; ComponentLink6Description: https://datasheet.ciiva.com/22741/1678782-22741086.pdf?src-supplier=Element14; ComponentLink7URL: https://datasheet.ciiva.com/46419/1678782-46419835.pdf?src-supplier=Element14; ComponentLink7Description: https://datasheet.ciiva.com/46419/1678782-46419835.pdf?src-supplier=Element14
footprint RES_1206
footprint RES_1206
pins: 1, 2

## RES_1K-0.1W-1%-0402
designator R?, comment 1K
1 kOhms ±1% 0.1W, 1/10W Chip Resistor 0402 (1005 Metric) Anti-Sulfur Thin Film; Manufacturer: Vishay Beyschlag/Draloric/BC Components; Manufacturer Part Number: MCS04020C1001FE000; Case/Package: 0402; Supplier-1: Digikey
footprint RES_0402
pins: 1, 2

## RES_1K-0.1W-1%-0603
designator R?, comment 1K
1 kOhms ±1% 0.1W, 1/10W Chip Resistor 0603 (1608 Metric) Thick Film; Manufacturer: Yageo; Manufacturer Part Number: RC0603FR-071KL; Case/Package: 0603; Supplier-1: Digikey
footprint RES_0603 (CASE: 0603)
pins: 1, 2

## RES_1K_0.125W_1%_0805
designator R?, comment 1K
Fixed Resistor, Metal Glaze/thick Film, 0.125W, 1000ohm, 150V, 1% +/-Tol, 100ppm/Cel, Surface Mount, 0805; Manufacturer: Yageo; Manufacturer Part Number: RC0805FR-071KL; Additional Feature: LASER TRIMMABLE; Power: 125mW; Rated Temperature: 70°C; Value: 1kR; Temperature Coefficient: 100ppm/°C; Package Height: 0.5mm; Package Length: 2mm; Package Width: 1.25mm; Supplier: Rs; Supplier Part Number: 6183583; RoHS: Yes; Category: Chip SMD Resistors; Stock: 345000; Pricing: 1=0.00348 (EUR); Mounting Technology: Surface Mount; Pins: 2; Package Shape: Rectangular; Case/Package: 0805; Terminal Finish: Nickel; Min Operating Temperature: -55°C; Max Operating Temperature: 155°C; Tolerance: 1%; JESD-609 Code: e3; Termination: Wraparound; Resistor Type: FIXED RESISTOR; Construction: Chip; Packaging: Tape and Reel; Technology: METAL GLAZE/THICK FILM; Working Voltage: 150V; Reach SVHC Compliant: Yes; RoHS Compliant: Yes; ComponentLink1URL: https://datasheet.ciiva.com:443/pdfs/VipMasterIC/IC/YAGO/YAGO-S-A0008145938/YAGO-S-A0008145938-1.pdf?src-supplier=IHS+Markit; ComponentLink1Description: https://datasheet.ciiva.com:443/pdfs/VipMasterIC/IC/YAGO/YAGO-S-A0008145938/YAGO-S-A0008145938-1.pdf?src-supplier=IHS+Markit; ComponentLink2URL: https://datasheet.ciiva.com/7941/1686128-7941719.pdf?src-supplier=Element14; ComponentLink2Description: https://datasheet.ciiva.com/7941/1686128-7941719.pdf?src-supplier=Element14; ComponentLink3URL: https://datasheet.ciiva.com/46385/444164-46385020.pdf?src-supplier=Element14; ComponentLink3Description: https://datasheet.ciiva.com/46385/444164-46385020.pdf?src-supplier=Element14; ComponentLink4URL: https://datasheet.ciiva.com/2456/pyu-r-int-thick-7-2456976.pdf?src-supplier=Digikey; ComponentLink4Description: https://datasheet.ciiva.com/2456/pyu-r-int-thick-7-2456976.pdf?src-supplier=Digikey; ComponentLink5URL: https://datasheet.ciiva.com/2456/pyu-r-int-thick-7-2456977.pdf?src-supplier=Digikey; ComponentLink5Description: https://datasheet.ciiva.com/2456/pyu-r-int-thick-7-2456977.pdf?src-supplier=Digikey; ComponentLink6URL: https://datasheet.ciiva.com/2456/pyu-r-int-thick-7-2456975.pdf?src-supplier=Digikey; ComponentLink6Description: https://datasheet.ciiva.com/2456/pyu-r-int-thick-7-2456975.pdf?src-supplier=Digikey; ComponentLink7URL: https://datasheet.ciiva.com/16850/rc0805-16850409.pdf?src-supplier=Future+Electronics; ComponentLink7Description: https://datasheet.ciiva.com/16850/rc0805-16850409.pdf?src-supplier=Future+Electronics
footprint RES_0805
pins: 1, 2

## RES_1MR_0.125W_1%_0805
designator R?, comment 1MR
Fixed Resistor, Metal Glaze/thick Film, 0.125W, 1000000ohm, 150V, 1% +/-Tol, 100ppm/Cel, Surface Mount, 0805; Manufacturer: Yageo; Manufacturer Part Number: RC0805FR-071ML; Additional Feature: LASER TRIMMABLE; Power: 125mW; Rated Temperature: 70°C; Temperature Coefficient: 100ppm/°C; Package Height: 0.5mm; Package Length: 2mm; Package Width: 1.25mm; Supplier: Digikey; Supplier Part Number: 311-1.00MCRCT-ND; RoHS: Yes; Category: Chip SMD Resistors; Stock: 453638; Pricing: 1=0.1, 10=0.025, 50=0.016, 100=0.0133, 500=0.00912, 1000=0.00787 (USD); Mounting Technology: Surface Mount; Pins: 2; Package Shape: Rectangular; Case/Package: 0805; Terminal Finish: Nickel; Min Operating Temperature: -55°C; Max Operating Temperature: 155°C; Tolerance: 1%; JESD-609 Code: e3; Termination: Wraparound; Resistor Type: FIXED RESISTOR; Construction: Chip; Package Style: SMTMeter; Packaging: Tape and Reel; Value: 1MR; Technology: METAL GLAZE/THICK FILM; Working Voltage: 150V; Reach SVHC Compliant: Yes; RoHS Compliant: Yes; ComponentLink1URL: https://datasheet.ciiva.com:443/pdfs/VipMasterIC/IC/YAGO/YAGO-S-A0008145938/YAGO-S-A0008145938-1.pdf?src-supplier=IHS+Markit; ComponentLink1Description: https://datasheet.ciiva.com:443/pdfs/VipMasterIC/IC/YAGO/YAGO-S-A0008145938/YAGO-S-A0008145938-1.pdf?src-supplier=IHS+Markit; ComponentLink2URL: http://www.farnell.com/datasheets/2167052.pdf?src-supplier=Farnell; ComponentLink2Description: http://www.farnell.com/datasheets/2167052.pdf?src-supplier=Farnell; ComponentLink3URL: http://www.farnell.com/datasheets/2167052.pdf?src-supplier=Newark; ComponentLink3Description: http://www.farnell.com/datasheets/2167052.pdf?src-supplier=Newark; ComponentLink4URL: http://www.yageo.com/documents/recent/PYu-RC_Group_51_RoHS_L_9.pdf?src-supplier=Arrow+Electronics; ComponentLink4Description: http://www.yageo.com/documents/recent/PYu-RC_Group_51_RoHS_L_9.pdf?src-supplier=Arrow+Electronics
footprint RES_0805
pins: 1, 2

## RES_1MR_5%_0.25W_1206
designator R?, comment 1MR
Fixed Resistor, Metal Glaze/thick Film, 0.25W, 1000000ohm, 200V, 5% +/-Tol, 200ppm/Cel, Surface Mount, 1206; Manufacturer: Panasonic; Manufacturer Part Number: ERJ-8GEYJ105V; Power: 250mW; Rated Temperature: 70°C; Temperature Coefficient (ppm/Cel): 200; Package Height: 0.6mm; Package Length: 3.2mm; Package Width: 1.6mm; Reference Standard: AEC-Q200; Supplier: Farnell; Supplier Part Number: 2057873; RoHS: Yes; Category: Chip SMD Resistors; Stock: 90705; Pricing: 10=0.0401, 100=0.0286, 500=0.0248, 1000=0.0202, 2500=0.0167, 5000=0.0132 (EUR); Mounting Technology: Surface Mount; Pins: 2; Package Shape: Rectangular; Case/Package: 1206; Terminal Finish: Nickel; Min Operating Temperature: -55°C; Max Operating Temperature: 155°C; Tolerance: 5%; JESD-609 Code: e3; Resistor Type: FIXED RESISTOR; Construction: Rectangular; Packaging: Tape and Reel; Value: 1MR; Technology: METAL GLAZE/THICK FILM; Termination: Wraparound; Working Voltage: 200V; Reach SVHC Compliant: Yes; RoHS Compliant: Yes; ComponentLink1URL: https://datasheet.ciiva.com:443/pdfs/VipMasterIC/IC/PANA/PANA-S-A0009891627/PANA-S-A0009891627-1.pdf?src-supplier=IHS+Markit; ComponentLink1Description: https://datasheet.ciiva.com:443/pdfs/VipMasterIC/IC/PANA/PANA-S-A0009891627/PANA-S-A0009891627-1.pdf?src-supplier=IHS+Markit; ComponentLink2URL: https://datasheet.ciiva.com/16200/aoa0000ce1-16200505.pdf?src-supplier=Future+Electronics; ComponentLink2Description: https://datasheet.ciiva.com/16200/aoa0000ce1-16200505.pdf?src-supplier=Future+Electronics; ComponentLink3URL: https://datasheet.ciiva.com/28546/1678796-28546170.pdf?src-supplier=Element14; ComponentLink3Description: https://datasheet.ciiva.com/28546/1678796-28546170.pdf?src-supplier=Element14; ComponentLink4URL: https://datasheet.ciiva.com/48532/aoa0000ce1-48532152.pdf?src-supplier=Avnet; ComponentLink4Description: https://datasheet.ciiva.com/48532/aoa0000ce1-48532152.pdf?src-supplier=Avnet; ComponentLink5URL: https://datasheet.ciiva.com/5868/1500035-5868230.pdf?src-supplier=Farnell; ComponentLink5Description: https://datasheet.ciiva.com/5868/1500035-5868230.pdf?src-supplier=Farnell; ComponentLink6URL: https://datasheet.ciiva.com/46387/1500035-46387305.pdf?src-supplier=Element14; ComponentLink6Description: https://datasheet.ciiva.com/46387/1500035-46387305.pdf?src-supplier=Element14; ComponentLink7URL: https://datasheet.ciiva.com/30125/4aoa0000ce1-30125196.pdf?src-supplier=Onlinecomponents.com; ComponentLink7Description: https://datasheet.ciiva.com/30125/4aoa0000ce1-30125196.pdf?src-supplier=Onlinecomponents.com
footprint RES_1206
pins: 1, 2

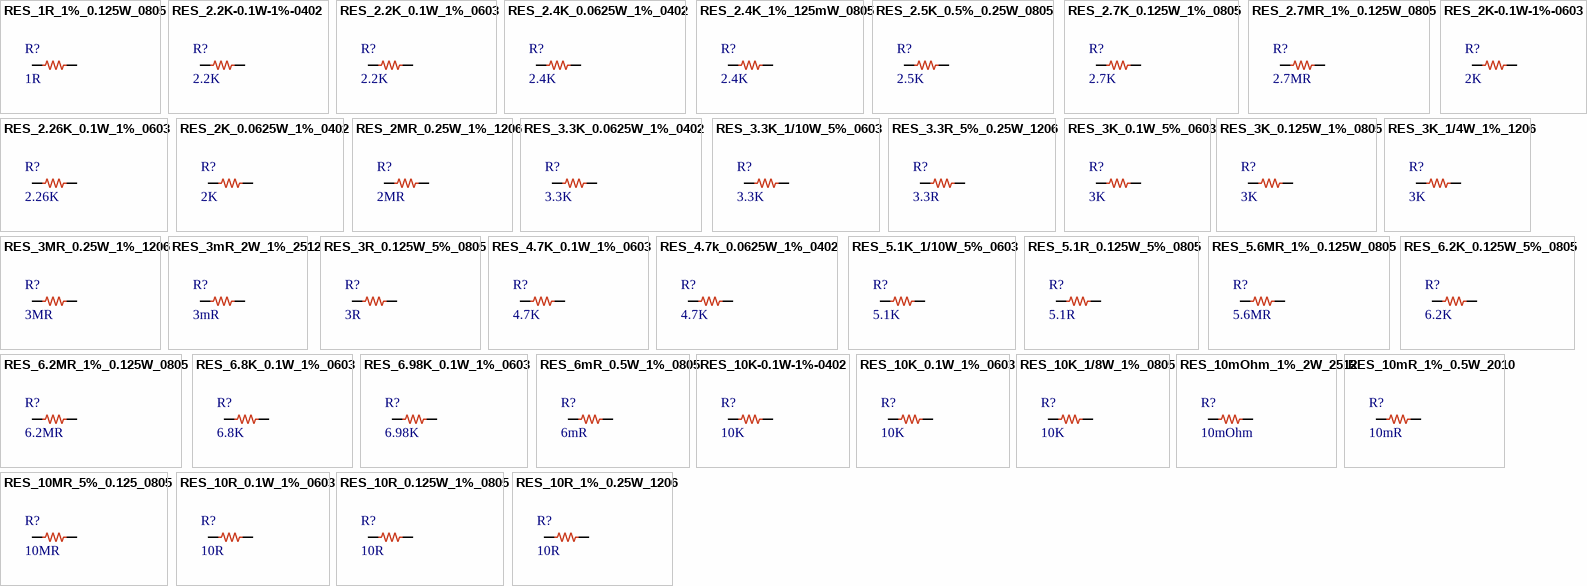
[diagram p13: symbols RES_1R_1%_0.125W_0805 to RES_10R_1%_0.25W_1206]

## RES_1R_1%_0.125W_0805
designator R?, comment 1R
Fixed Resistor, Metal Glaze/thick Film, 0.125W, 1ohm, 150V, 1% +/-Tol, 200ppm/Cel, Surface Mount, 0805; Manufacturer: Yageo; Manufacturer Part Number: RC0805FR-071RL; Additional Feature: LASER TRIMMABLE; Power: 125mW; Rated Temperature: 70°C; Temperature Coefficient (ppm/Cel): 200; Package Height: 0.5mm; Package Length: 2mm; Package Width: 1.25mm; Supplier: Farnell; Supplier Part Number: 9237127; RoHS: Yes; Category: Chip SMD Resistors; Stock: 10390; Pricing: 10=0.0274, 100=0.0214, 500=0.0184, 1000=0.0153, 2500=0.015 (EUR); Mounting Technology: Surface Mount; Pins: 2; Package Shape: Rectangular; Case/Package: 0805; Terminal Finish: Nickel; Min Operating Temperature: -55°C; Max Operating Temperature: 155°C; Tolerance: 1%; JESD-609 Code: e3; Resistor Type: FIXED RESISTOR; Construction: Chip; Packaging: Tape and Reel; Value: 1R; Technology: METAL GLAZE/THICK FILM; Termination: Wraparound; Working Voltage: 150V; Reach SVHC Compliant: Yes; RoHS Compliant: Yes; ComponentLink1URL: https://datasheet.ciiva.com:443/pdfs/VipMasterIC/IC/YAGO/YAGO-S-A0008145938/YAGO-S-A0008145938-1.pdf?src-supplier=IHS+Markit; ComponentLink1Description: https://datasheet.ciiva.com:443/pdfs/VipMasterIC/IC/YAGO/YAGO-S-A0008145938/YAGO-S-A0008145938-1.pdf?src-supplier=IHS+Markit; ComponentLink2URL: https://datasheet.ciiva.com/11808/0900766b8106beab-11808253.pdf?src-supplier=Rs; ComponentLink2Description: https://datasheet.ciiva.com/11808/0900766b8106beab-11808253.pdf?src-supplier=Rs; ComponentLink3URL: https://datasheet.ciiva.com/2459/pyu-r-int-thick-7-2459662.pdf?src-supplier=Digikey; ComponentLink3Description: https://datasheet.ciiva.com/2459/pyu-r-int-thick-7-2459662.pdf?src-supplier=Digikey; ComponentLink4URL: https://datasheet.ciiva.com/2459/pyu-r-int-thick-7-2459663.pdf?src-supplier=Digikey; ComponentLink4Description: https://datasheet.ciiva.com/2459/pyu-r-int-thick-7-2459663.pdf?src-supplier=Digikey; ComponentLink5URL: https://datasheet.ciiva.com/2459/pyu-r-int-thick-7-2459661.pdf?src-supplier=Digikey; ComponentLink5Description: https://datasheet.ciiva.com/2459/pyu-r-int-thick-7-2459661.pdf?src-supplier=Digikey; ComponentLink6URL: https://datasheet.ciiva.com/7941/444164-7941736.pdf?src-supplier=Element14; ComponentLink6Description: https://datasheet.ciiva.com/7941/444164-7941736.pdf?src-supplier=Element14; ComponentLink7URL: https://datasheet.ciiva.com/7941/444164-7941737.pdf?src-supplier=Element14; ComponentLink7Description: https://datasheet.ciiva.com/7941/444164-7941737.pdf?src-supplier=Element14
footprint RES_0805
pins: 1, 2

## RES_2.2K-0.1W-1%-0402
designator R?, comment 2.2K
2.2 kOhms ±1% 0.1W, 1/10W Chip Resistor 0402 (1005 Metric) Automotive AEC-Q200 Thick Film; Manufacturer: Panasonic Electronic Components; Manufacturer Part Number: ERJ-2RKF2201X; Case/Package: 0402; Supplier-1: Digikey
footprint RES_0402
pins: 1, 2

## RES_2.2K_0.1W_1%_0603
designator R?, comment 2.2K
Fixed Resistor, Metal Glaze/thick Film, 0.1W, 2200ohm, 75V, 1% +/-Tol, 100ppm/Cel, Surface Mount, 0603; Manufacturer: Yageo; Manufacturer Part Number: RC0603FR-132K2L; Additional Feature: LASER TRIMMABLE; Power: 100mW; Rated Temperature: 70°C; Value: 2.2kR; Temperature Coefficient: 100ppm/°C; Package Height: 0.45mm; Package Length: 1.6mm; Package Width: 0.8mm; Supplier: Digi-Key; Supplier Part Number: 13-RC0603FR-132K2LCT-ND; RoHS: Yes; Category: Chip SMD Resistors; Stock: 130768; Pricing: 1=0.1, 10=0.019, 50=0.0112, 100=0.0093, 500=0.00622, 1000=0.00532, 5000=0.00382, 10000=0.00335 (USD); Mounting Technology: Surface Mount; Pins: 2; Package Shape: Rectangular; Case/Package: 0603; Terminal Finish: Nickel; Min Operating Temperature: -55°C; Max Operating Temperature: 155°C; Tolerance: 1%; JESD-609 Code: e3; Resistor Type: FIXED RESISTOR; Construction: Chip; Package Style: SMTMeter; Packaging: Tape and Reel; Technology: METAL GLAZE/THICK FILM; Termination: Wraparound; Working Voltage: 75V; Reach SVHC Compliant: Yes; RoHS Compliant: Yes; ComponentLink1URL: https://datasheet.ciiva.com:443/pdfs/VipMasterIC/IC/YAGO/YAGO-S-A0008145938/YAGO-S-A0008145938-1.pdf?src-supplier=IHS+Markit; ComponentLink1Description: https://datasheet.ciiva.com:443/pdfs/VipMasterIC/IC/YAGO/YAGO-S-A0008145938/YAGO-S-A0008145938-1.pdf?src-supplier=IHS+Markit; ComponentLink2URL: https://datasheet.ciiva.com/12561/rc0603-272842-12561118.pdf?src-supplier=Mouser; ComponentLink2Description: https://datasheet.ciiva.com/12561/rc0603-272842-12561118.pdf?src-supplier=Mouser
footprint RES_0603
pins: 1, 2